# EAGLE library part RJ45-LMJ199882 (library JLB6_Connec)
Amphenol LMJ199882x130DL1TOHLFG (bottom leds)
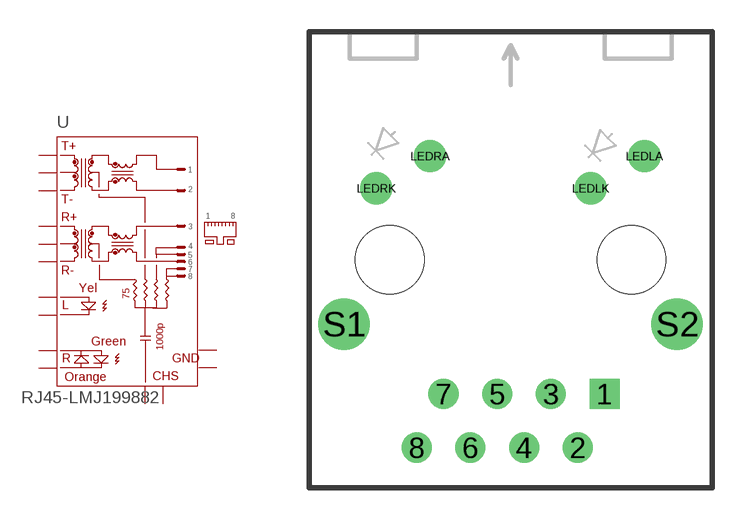
[diagram p67: symbol with the pads of PJ-J0; footprint PJ-J0]

Designator prefix -

## RJ45-LMJ199882  [PJ-J0]
1  TD+
2  TD-
3  RD+
4  TCT
5  RCT
6  RD-
7  G1
8  G2
LEDLA  LLA
LEDLK  LLC
LEDRA  LRA
LEDRK  LRC
S1  GND1
S2  GND2

## Footprint PJ-J0 (pad centres in mm)
pulse jack
drill 0.914 square: 1 4.445,-6.35
drill 0.914: 2 3.175,-8.89; 3 1.905,-6.35; 4 0.635,-8.89; 5 -0.635,-6.35; 6 -1.905,-8.89; 7 -3.175,-6.35; 8 -4.445,-8.89
drill 1.016: LEDLA 6.325,4.902; LEDLK 3.785,3.378; LEDRA -3.81,4.902; LEDRK -6.35,3.378
drill 1.626: S1 -7.874,-3.048; S2 7.874,-3.048
hole 3.251 at -5.715,0
hole 3.251 at 5.715,0